# Altium schematic symbol library TP_TESTPIN.SchLib: 1 symbol
Pins are listed as number, name and electrical type; pins without a type are passive.

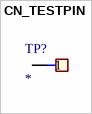
[diagram p0: symbol CN_TESTPIN]

## CN_TESTPIN
designator TP?  (no BOM)
pins: 1